# Altium footprint library TRIM_3362W-1-203LF.PcbLib: 1 footprints
Each footprint in its own frame and in the unit in brackets; x right, y up, seen from the top. Pads: shape width x height; smd on the part's side, far side on the other; paste and mask are expansions set on the pad; w line width, h text height; cw(c..) or ccw(c..) is an arc to the next point about the centre after c.
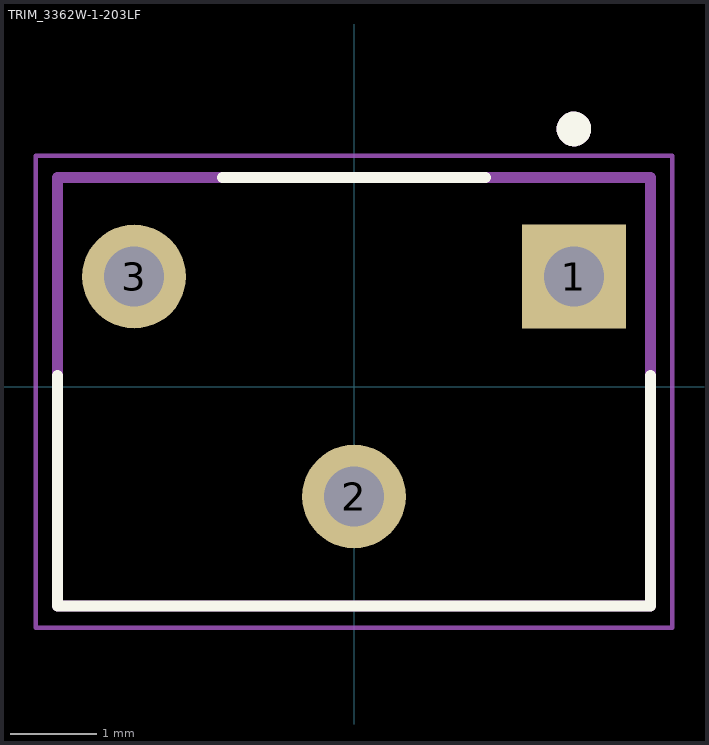
[diagram p0: the footprint, top view; thin cyan lines are the x and y axes]

## TRIM_3362W-1-203LF [mm]
height 7.24
pads (3):
  rect 1.198x1.198 / inner round 1.198 / far side rect 1.198x1.198 hole 0.69: 1(2.54,1.27)
  round 1.198 hole 0.69: 2(0,-1.27) 3(-2.54,1.27)
Top Overlay:
  circle w0.2: c2.54,2.975 r0.1
  lines w0.127: -3.425,0.125 -3.425,-2.535 3.425,-2.535 3.425,0.125 ; -1.52,2.415 1.52,2.415
Mechanical 13:
  circle w0.2: c2.54,2.975 r0.1
  lines w0.127: -3.425,-2.535 3.425,-2.535 3.425,2.415 -3.425,2.415 -3.425,-2.535
Mechanical 15:
  lines w0.05: -3.675,-2.785 3.675,-2.785 3.675,2.665 -3.675,2.665 -3.675,-2.785
3D body "step_temp.STEP": height 6.99, standoff -5.59, extent -3.3,-2.41 3.3,2.29